# Altium integrated library SIM7050-6-0-00-X_REVC.IntLib: 1 symbol
Pins are listed as number, name and electrical type; pins without a type are passive.

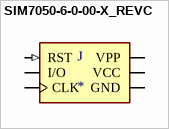
[diagram p0: symbol SIM7050-6-0-00-X_REVC]

## SIM7050-6-0-00-X_REVC
designator J
6 Position Card Connector Micro SIM Surface Mount, Right Angle Gold; MF: Global Connector Technology; MP: SIM7050-6-0-00-A; Value: *; SnapEDA_Link: https://www.snapeda.com/parts/SIM7050-6-0-00-A/Global%20Connector%20Technology/view-part/270345/?ref=snap; Availability: Unavailable; Price: None; Package: None
footprint GCT_SIM7050-6-0-00-X_REVC
pins: C1 VCC (power), C2 RST (in), C3 CLK (io), C5 GND (power), C6 VPP (power), C7 I/O (io)